# EAGLE library part ATSAMD21G18A-MU (library graftel-internal-ic)
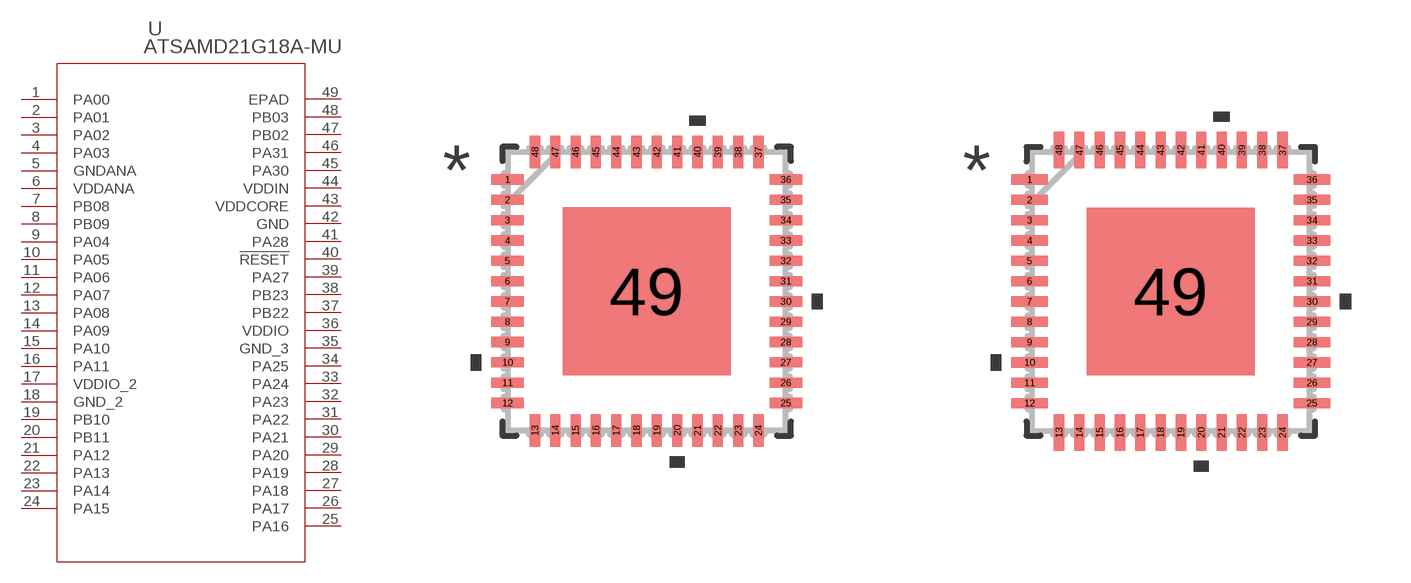
[diagram p86: symbol with the pads of QFN48_7X7MC_MCH; footprints QFN48_7X7MC_MCH, QFN48_7X7MC_MCH-M]

Designator prefix U

## ATSAMD21G18A-MU (BUILT_BY: EMA_Molly; COPYRIGHT: Copyright (C) 2018 Accelerated Designs. All rights reserved; MANUFACTURER_PART_NUMBER: ATSAMD21G18A-MU; SOURCELIBRARY: Microchip_2019-08-23_25; VENDOR: Microchip)  [QFN48_7X7MC_MCH]
1  PA00
2  PA01
3  PA02
4  PA03
5  GNDANA  pas
6  VDDANA  pwr
7  PB08
8  PB09
9  PA04
10  PA05
11  PA06
12  PA07
13  PA08
14  PA09
15  PA10
16  PA11
17  VDDIO_2  pwr
18  GND_2  pas
19  PB10
20  PB11
21  PA12
22  PA13
23  PA14
24  PA15
25  PA16
26  PA17
27  PA18
28  PA19
29  PA20
30  PA21
31  PA22
32  PA23
33  PA24
34  PA25
35  GND_3  pas
36  VDDIO  pwr
37  PB22
38  PB23
39  PA27
40  !RESET  pas
41  PA28
42  GND  pas
43  VDDCORE  pwr
44  VDDIN  pwr
45  PA30
46  PA31
47  PB02
48  PB03
49  EPAD  pas

## ATSAMD21G18A-MUQFN48_7X7MC_MCH-M (BUILT_BY: EMA_Molly; COPYRIGHT: Copyright (C) 2018 Accelerated Designs. All rights reserved; MANUFACTURER_PART_NUMBER: ATSAMD21G18A-MU; SOURCELIBRARY: Microchip_2019-08-23_25; VENDOR: Microchip)  [QFN48_7X7MC_MCH-M]
Pads as for QFN48_7X7MC_MCH

## ATSAMD21G18A-MUQFN48_7X7MC_MCH-L (BUILT_BY: EMA_Molly; COPYRIGHT: Copyright (C) 2018 Accelerated Designs. All rights reserved; MANUFACTURER_PART_NUMBER: ATSAMD21G18A-MU; SOURCELIBRARY: Microchip_2019-08-23_25; VENDOR: Microchip)  [QFN48_7X7MC_MCH-L]
Pads as for QFN48_7X7MC_MCH

## Footprint QFN48_7X7MC_MCH (pad centres in mm)
smd 0.813 x 0.254: 1 -3.48,2.794; 2 -3.48,2.286; 3 -3.48,1.778; 4 -3.48,1.27; 5 -3.48,0.762; 6 -3.48,0.254; 7 -3.48,-0.254; 8 -3.48,-0.762; 9 -3.48,-1.27; 10 -3.48,-1.778; 11 -3.48,-2.286; 12 -3.48,-2.794; 25 3.48,-2.794; 26 3.48,-2.286; 27 3.48,-1.778; 28 3.48,-1.27; 29 3.48,-0.762; 30 3.48,-0.254; 31 3.48,0.254; 32 3.48,0.762; 33 3.48,1.27; 34 3.48,1.778; 35 3.48,2.286; 36 3.48,2.794
smd 0.254 x 0.813: 13 -2.794,-3.48; 14 -2.286,-3.48; 15 -1.778,-3.48; 16 -1.27,-3.48; 17 -0.762,-3.48; 18 -0.254,-3.48; 19 0.254,-3.48; 20 0.762,-3.48; 21 1.27,-3.48; 22 1.778,-3.48; 23 2.286,-3.48; 24 2.794,-3.48; 37 2.794,3.48; 38 2.286,3.48; 39 1.778,3.48; 40 1.27,3.48; 41 0.762,3.48; 42 0.254,3.48; 43 -0.254,3.48; 44 -0.762,3.48; 45 -1.27,3.48; 46 -1.778,3.48; 47 -2.286,3.48; 48 -2.794,3.48
smd 4.191 x 4.191: 49 0,0

## Footprint QFN48_7X7MC_MCH-M (pad centres in mm)
smd 0.914 x 0.254: 1 -3.531,2.794; 2 -3.531,2.286; 3 -3.531,1.778; 4 -3.531,1.27; 5 -3.531,0.762; 6 -3.531,0.254; 7 -3.531,-0.254; 8 -3.531,-0.762; 9 -3.531,-1.27; 10 -3.531,-1.778; 11 -3.531,-2.286; 12 -3.531,-2.794; 25 3.531,-2.794; 26 3.531,-2.286; 27 3.531,-1.778; 28 3.531,-1.27; 29 3.531,-0.762; 30 3.531,-0.254; 31 3.531,0.254; 32 3.531,0.762; 33 3.531,1.27; 34 3.531,1.778; 35 3.531,2.286; 36 3.531,2.794
smd 0.254 x 0.914: 13 -2.794,-3.531; 14 -2.286,-3.531; 15 -1.778,-3.531; 16 -1.27,-3.531; 17 -0.762,-3.531; 18 -0.254,-3.531; 19 0.254,-3.531; 20 0.762,-3.531; 21 1.27,-3.531; 22 1.778,-3.531; 23 2.286,-3.531; 24 2.794,-3.531; 37 2.794,3.531; 38 2.286,3.531; 39 1.778,3.531; 40 1.27,3.531; 41 0.762,3.531; 42 0.254,3.531; 43 -0.254,3.531; 44 -0.762,3.531; 45 -1.27,3.531; 46 -1.778,3.531; 47 -2.286,3.531; 48 -2.794,3.531
smd 4.191 x 4.191: 49 0,0

## Footprint QFN48_7X7MC_MCH-L (pad centres in mm)
smd 0.711 x 0.254: 1 -3.429,2.794; 2 -3.429,2.286; 3 -3.429,1.778; 4 -3.429,1.27; 5 -3.429,0.762; 6 -3.429,0.254; 7 -3.429,-0.254; 8 -3.429,-0.762; 9 -3.429,-1.27; 10 -3.429,-1.778; 11 -3.429,-2.286; 12 -3.429,-2.794; 25 3.429,-2.794; 26 3.429,-2.286; 27 3.429,-1.778; 28 3.429,-1.27; 29 3.429,-0.762; 30 3.429,-0.254; 31 3.429,0.254; 32 3.429,0.762; 33 3.429,1.27; 34 3.429,1.778; 35 3.429,2.286; 36 3.429,2.794
smd 0.254 x 0.711: 13 -2.794,-3.429; 14 -2.286,-3.429; 15 -1.778,-3.429; 16 -1.27,-3.429; 17 -0.762,-3.429; 18 -0.254,-3.429; 19 0.254,-3.429; 20 0.762,-3.429; 21 1.27,-3.429; 22 1.778,-3.429; 23 2.286,-3.429; 24 2.794,-3.429; 37 2.794,3.429; 38 2.286,3.429; 39 1.778,3.429; 40 1.27,3.429; 41 0.762,3.429; 42 0.254,3.429; 43 -0.254,3.429; 44 -0.762,3.429; 45 -1.27,3.429; 46 -1.778,3.429; 47 -2.286,3.429; 48 -2.794,3.429
smd 4.191 x 4.191: 49 0,0